# EAGLE library part SAM4LC8BA (library chips)
SAM4L Microcontroller. 64QFN Package. 512 Flash.
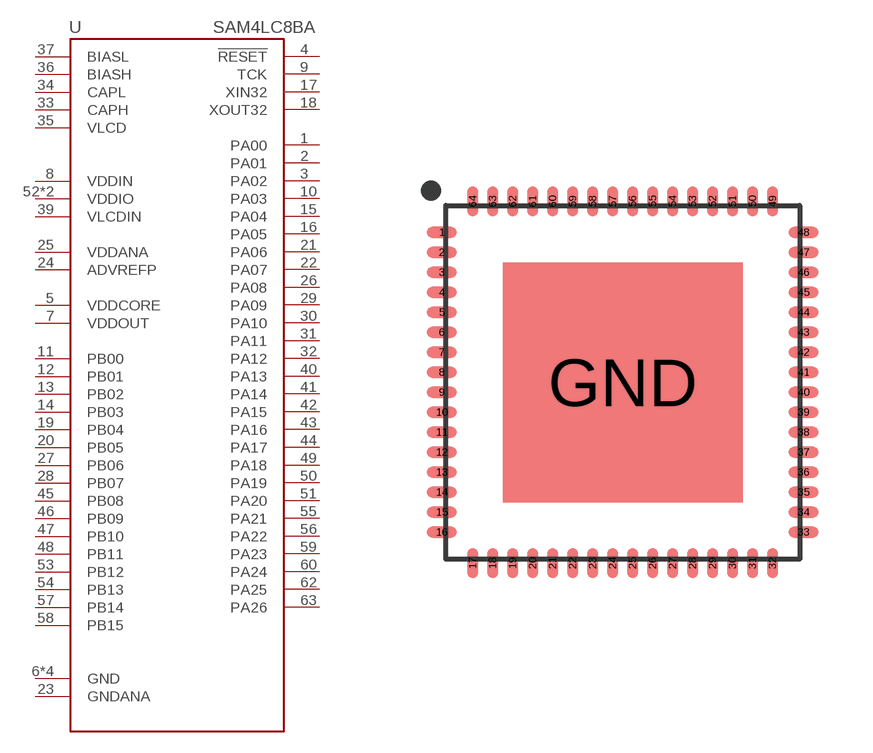
[diagram p56: symbol with the pads of QFN-64-9MM; footprint QFN-64-9MM]

Designator prefix -

## SAM4LC8BA (DIGIKEY: ATSAM4LC8BA-MURDKR-ND)  [QFN-64-9MM]
1  PA00
2  PA01
3  PA02
4  !RESET
5  VDDCORE  pwr
6  GND  pwr
7  VDDOUT  pwr
8  VDDIN  pwr
9  TCK
10  PA03
11  PB00
12  PB01
13  PB02
14  PB03
15  PA04
16  PA05
17  XIN32
18  XOUT32
19  PB04
20  PB05
21  PA06
22  PA07
23  GNDANA  pwr
24  ADVREFP  pwr
25  VDDANA  pwr
26  PA08
27  PB06
28  PB07
29  PA09
30  PA10
31  PA11
32  PA12
33  CAPH
34  CAPL
35  VLCD
36  BIASH
37  BIASL
38  GND  pwr
39  VLCDIN  pwr
40  PA13
41  PA14
42  PA15
43  PA16
44  PA17
45  PB08
46  PB09
47  PB10
48  PB11
49  PA18
50  PA19
51  PA20
52  VDDIO  pwr
53  PB12
54  PB13
55  PA21
56  PA22
57  PB14
58  PB15
59  PA23
60  PA24
61  VDDIO  pwr
62  PA25
63  PA26
64  GND  pwr
GND  GND  pwr

## Footprint QFN-64-9MM (pad centres in mm)
smd 0.75 x 0.28: 1 -4.525,3.75; 2 -4.525,3.25; 3 -4.525,2.75; 4 -4.525,2.25; 5 -4.525,1.75; 6 -4.525,1.25; 7 -4.525,0.75; 8 -4.525,0.25; 9 -4.525,-0.25; 10 -4.525,-0.75; 11 -4.525,-1.25; 12 -4.525,-1.75; 13 -4.525,-2.25; 14 -4.525,-2.75; 15 -4.525,-3.25; 16 -4.525,-3.75; 33 4.525,-3.75; 34 4.525,-3.25; 35 4.525,-2.75; 36 4.525,-2.25; 37 4.525,-1.75; 38 4.525,-1.25; 39 4.525,-0.75; 40 4.525,-0.25; 41 4.525,0.25; 42 4.525,0.75; 43 4.525,1.25; 44 4.525,1.75; 45 4.525,2.25; 46 4.525,2.75; 47 4.525,3.25; 48 4.525,3.75
smd 0.28 x 0.75: 17 -3.75,-4.525; 18 -3.25,-4.525; 19 -2.75,-4.525; 20 -2.25,-4.525; 21 -1.75,-4.525; 22 -1.25,-4.525; 23 -0.75,-4.525; 24 -0.25,-4.525; 25 0.25,-4.525; 26 0.75,-4.525; 27 1.25,-4.525; 28 1.75,-4.525; 29 2.25,-4.525; 30 2.75,-4.525; 31 3.25,-4.525; 32 3.75,-4.525; 49 3.75,4.525; 50 3.25,4.525; 51 2.75,4.525; 52 2.25,4.525; 53 1.75,4.525; 54 1.25,4.525; 55 0.75,4.525; 56 0.25,4.525; 57 -0.25,4.525; 58 -0.75,4.525; 59 -1.25,4.525; 60 -1.75,4.525; 61 -2.25,4.525; 62 -2.75,4.525; 63 -3.25,4.525; 64 -3.75,4.525
smd 6 x 6: GND 0,0